# EAGLE library part AP2318M (library jason_eagle6)
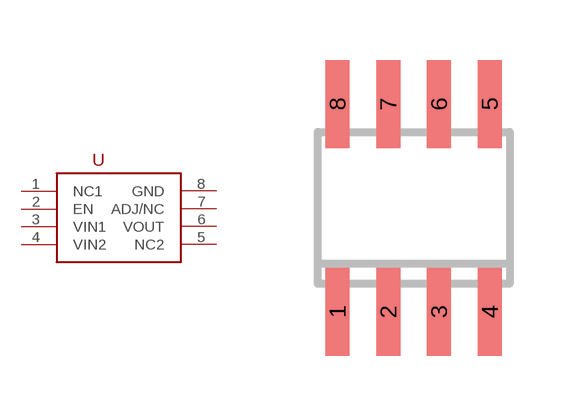
[diagram p54: symbol with the pads of SO08; footprint SO08]

Designator prefix -

## AP2318M  [SO08]
1  NC1
2  EN
3  VIN1
4  VIN2
5  NC2
6  VOUT
7  ADJ/NC
8  GND

## Footprint SO08 (pad centres in mm)
Small Outline Package 8 NS Package M08A
smd 0.6 x 2.2: 1 -1.905,-2.6; 2 -0.635,-2.6; 3 0.635,-2.6; 4 1.905,-2.6; 5 1.905,2.6; 6 0.635,2.6; 7 -0.635,2.6; 8 -1.905,2.6